# EAGLE library part ESP32_WROOM_BREAKOUT_DEV (library blizzard_common_0)
ESP32 WROOM Breakout
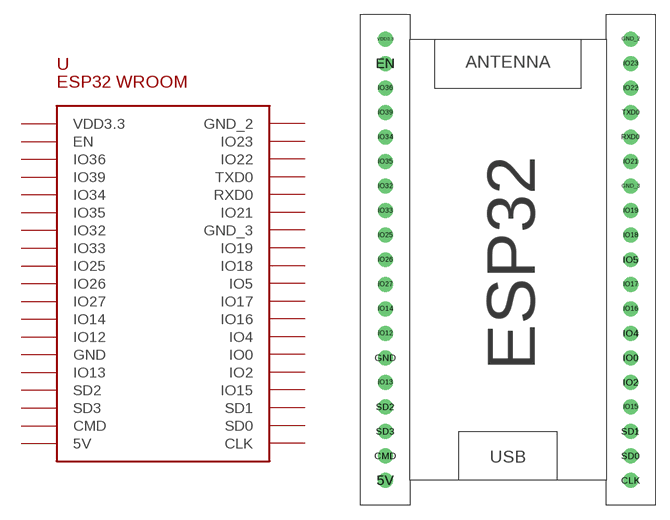
[diagram p0: symbol with the pads of ESP_WROOM_BREAKOUT_PKG; footprint ESP_WROOM_BREAKOUT_PKG]

Designator prefix U

## ESP32_WROOM_BREAKOUT_DEV  [ESP_WROOM_BREAKOUT_PKG]
5V  5V
CLK  CLK
CMD  CMD
EN  EN
GND  GND
GND_2  GND_2
GND_3  GND_3
IO0  IO0
IO2  IO2
IO4  IO4
IO5  IO5
IO12  IO12
IO13  IO13
IO14  IO14
IO15  IO15
IO16  IO16
IO17  IO17
IO18  IO18
IO19  IO19
IO21  IO21
IO22  IO22
IO23  IO23
IO25  IO25
IO26  IO26
IO27  IO27
IO32  IO32
IO33  IO33
IO34  IO34
IO35  IO35
IO36  IO36
IO39  IO39
RXD0  RXD0
SD0  SD0
SD1  SD1
SD2  SD2
SD3  SD3
TXD0  TXD0
VDD3.3  VDD3.3

## Footprint ESP_WROOM_BREAKOUT_PKG (pad centres in mm)
ESP32 WROOM Dev Breakout Pin Header
drill 1.03: 5V 0,-45.72; CLK 25.4,-45.72; CMD 0,-43.18; EN 0,-2.54; GND 0,-33.02; GND_2 25.4,0; GND_3 25.4,-15.24; IO0 25.4,-33.02; IO2 25.4,-35.56; IO4 25.4,-30.48; IO5 25.4,-22.86; IO12 0,-30.48; IO13 0,-35.56; IO14 0,-27.94; IO15 25.4,-38.1; IO16 25.4,-27.94; IO17 25.4,-25.4; IO18 25.4,-20.32; IO19 25.4,-17.78; IO21 25.4,-12.7; IO22 25.4,-5.08; IO23 25.4,-2.54; IO25 0,-20.32; IO26 0,-22.86; IO27 0,-25.4; IO32 0,-15.24; IO33 0,-17.78; IO34 0,-10.16; IO35 0,-12.7; IO36 0,-5.08; IO39 0,-7.62; RXD0 25.4,-10.16; SD0 25.4,-43.18; SD1 25.4,-40.64; SD2 0,-38.1; SD3 0,-40.64; TXD0 25.4,-7.62; VDD3.3 0,0